# Altium footprint library UFQFPN28.PcbLib: 1 footprints
Each footprint in its own frame and in the unit in brackets; x right, y up, seen from the top. Pads: shape width x height; smd on the part's side, far side on the other; paste and mask are expansions set on the pad; w line width, h text height; cw(c..) or ccw(c..) is an arc to the next point about the centre after c.
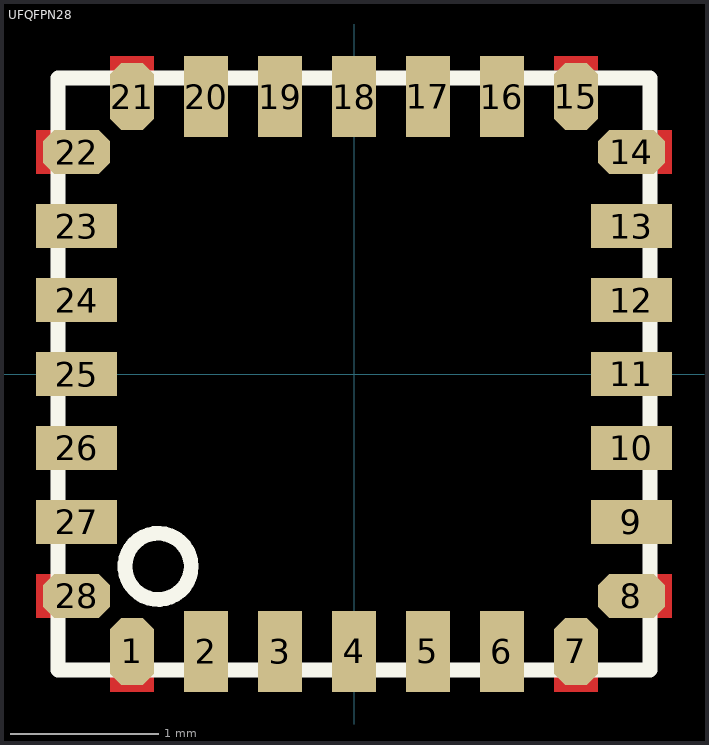
[diagram p0: the footprint, top view; thin cyan lines are the x and y axes]

## UFQFPN28 [mm]
pads (28):
  oct 0.3x0.45 smd: 1(-1.5,-1.875) 7(1.5,-1.875) 15(1.5,1.875) 21(-1.5,1.875)
  rect 0.3x0.55 smd: 2(-1,-1.875) 3(-0.5,-1.875) 4(0,-1.875) 5(0.5,-1.875) 6(1,-1.875) 16(1,1.875) 17(0.5,1.875) 18(0,1.875) 19(-0.5,1.875) 20(-1,1.875)
  oct 0.45x0.3 smd: 8(1.875,-1.5) 14(1.875,1.5) 22(-1.875,1.5) 28(-1.875,-1.5)
  rect 0.55x0.3 smd: 9(1.875,-1) 10(1.875,-0.5) 11(1.875,0) 12(1.875,0.5) 13(1.875,1) 23(-1.875,1) 24(-1.875,0.5) 25(-1.875,0) 26(-1.875,-0.5) 27(-1.875,-1)
Top Layer:
  rectangle: -2.15,1.35 -2.04,1.65
  rectangle: -2.15,-1.65 -2.04,-1.35
  rectangle: -1.65,-2.15 -1.35,-2.04
  rectangle: 1.35,-2.15 1.65,-2.03
  rectangle: 2.02,-1.65 2.15,-1.35
  rectangle: 2.05,1.35 2.15,1.65
  rectangle: 1.35,2.05 1.65,2.15
  rectangle: -1.65,2.02 -1.35,2.15
Top Overlay:
  circle w0.1: c-1.324,-1.3 r0.224
  lines w0.1: -2,-2 -2,2 2,2 2,-2 -2,-2
3D body: height 0.6, standoff 0, extent -2,-2 2,2